# EAGLE library part 4_DIGIT_7-SEGMENT_DISPLAY (library 0.28 inch 7 seven segment display)
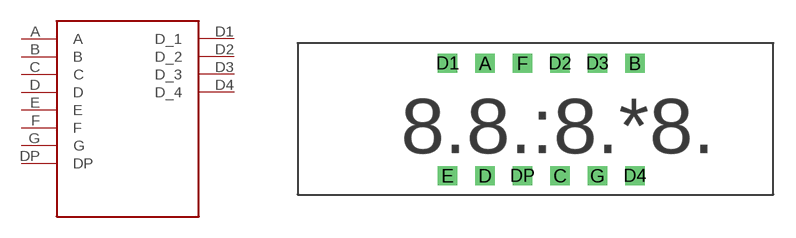
[diagram p0: symbol with the pads of 4_DIGIT_7-SEGMENT_DISPLAY; footprint 4_DIGIT_7-SEGMENT_DISPLAY]

Designator prefix -

## 4_DIGIT_7-SEGMENT_DISPLAYTHROUGH_HOLE  [4_DIGIT_7-SEGMENT_DISPLAY]
A  A
B  B
C  C
D  D
D1  D_1
D2  D_2
D3  D_3
D4  D_4
DP  DP
E  E
F  F
G  G

## Footprint 4_DIGIT_7-SEGMENT_DISPLAY (pad centres in mm)
drill 0.8 square: A 12.7,8.89; B 22.86,8.89; C 17.78,1.27; D 12.7,1.27; D1 10.16,8.89; D2 17.78,8.89; D3 20.32,8.89; D4 22.86,1.27; DP 15.24,1.27; E 10.16,1.27; F 15.24,8.89; G 20.32,1.27